# Altium footprint library Tranzistor.PcbLib: 240 footprints (part 4 of 15)
Each footprint in its own frame and in the unit in brackets; x right, y up, seen from the top. Pads: shape width x height; smd on the part's side, far side on the other; paste and mask are expansions set on the pad; w line width, h text height; cw(c..) or ccw(c..) is an arc to the next point about the centre after c.
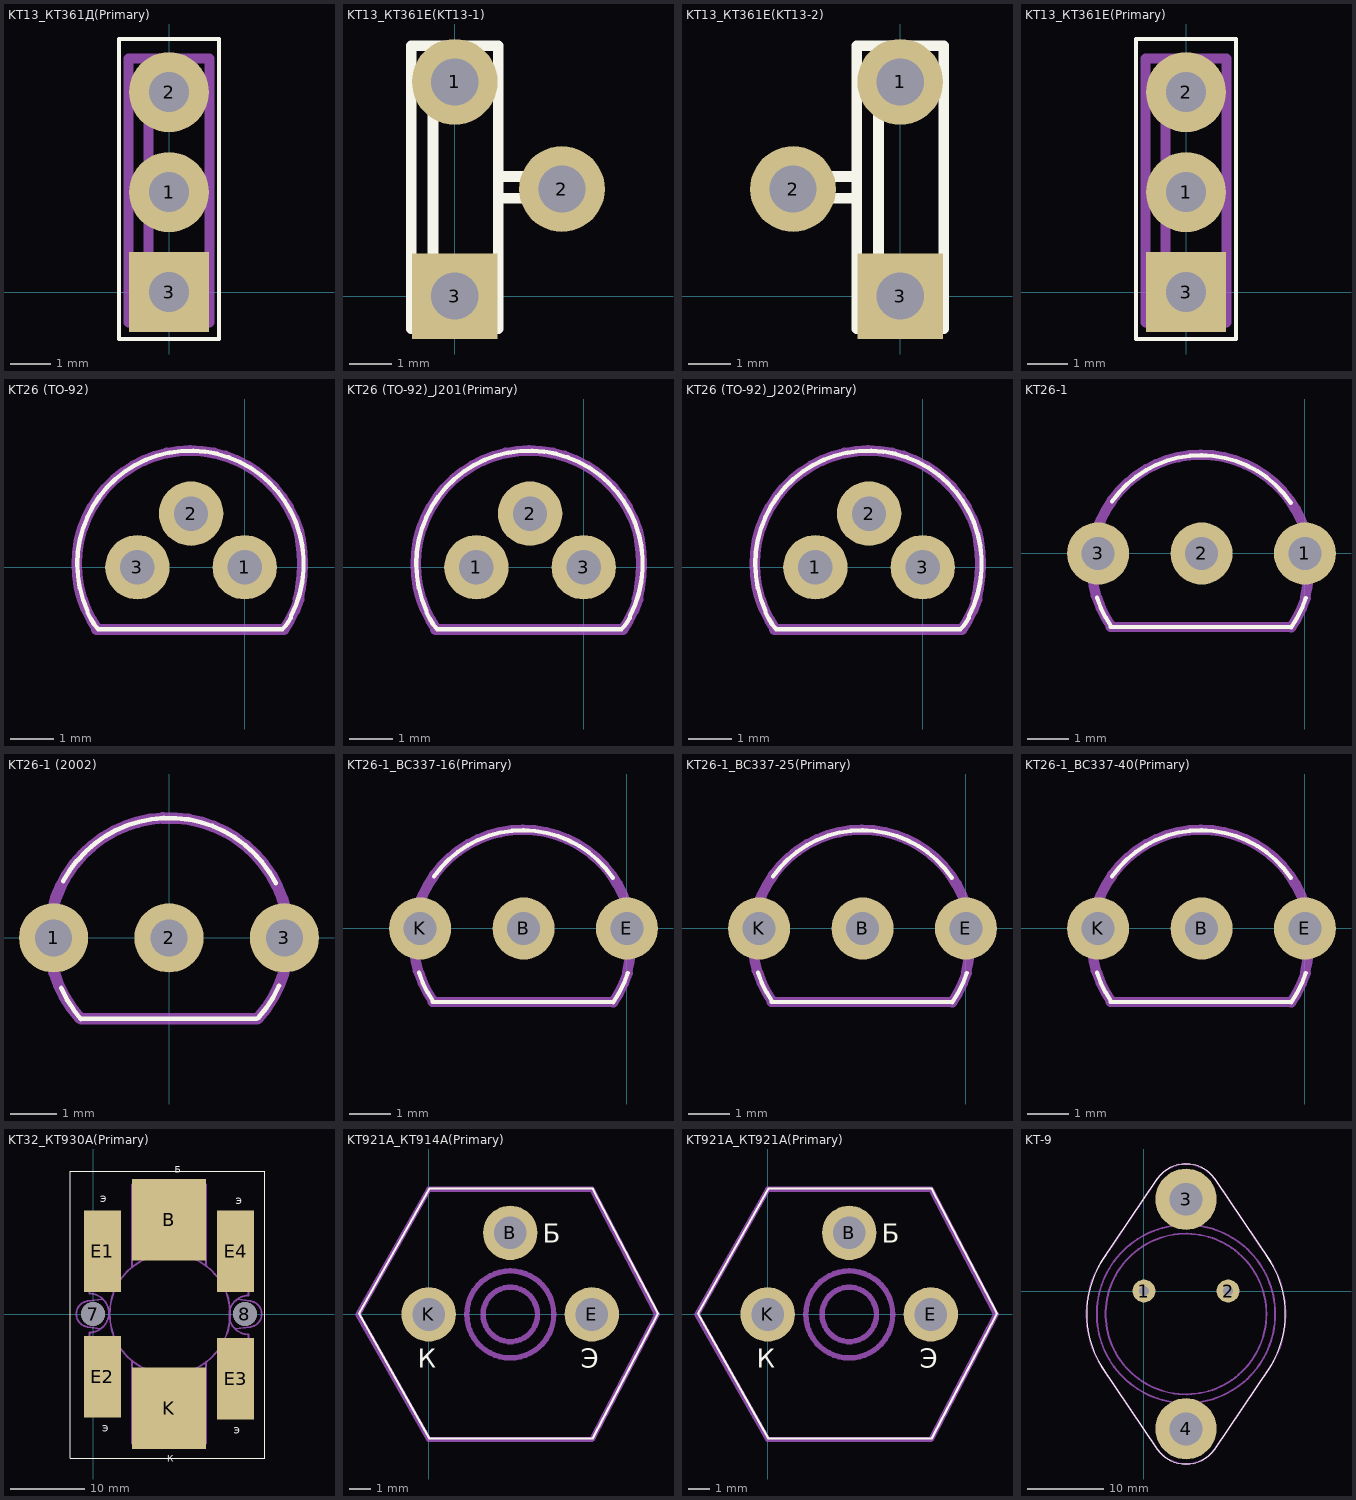
[diagram p3: the footprints below, top view; thin cyan lines are the x and y axes]

## KT13_КТ361Д(Primary) [mm]
pads (3):
  round 2 hole 1: 1(0,2.5) 2(0,5)
  rect 2x2 hole 1: 3(0,0)
Top Overlay:
  lines w0.1: -1.25,-1.17 1.25,-1.17 1.25,6.33 -1.25,6.33 -1.25,-1.17
Mechanical 1:
  lines w0.25: -0.508,-0.762 -0.508,5.842 ; -1.016,-0.762 1.016,-0.762 1.016,5.842 -1.016,5.842 -1.016,-0.762
  text "Б" at -2.25,4.58 h1
  text "К" at -2.25,2.08 h1
  text "Э" at -2.25,-0.67 h1

## KT13_КТ361Е(KT13-1) [mm]
pads (3):
  round 2 hole 1.1: 1(0,5) 2(2.5,2.5)
  rect 2x2 hole 1.1: 3(0,0)
Top Overlay:
  lines w0.25: -0.508,-0.762 -0.508,5.842 ; 1.016,2.286 2.667,2.286 2.667,2.794 1.016,2.794 ; -1.016,-0.762 1.016,-0.762 1.016,5.842 -1.016,5.842 -1.016,-0.762

## KT13_КТ361Е(KT13-2) [mm]
pads (3):
  round 2 hole 1.1: 1(0,5) 2(-2.5,2.5)
  rect 2x2 hole 1.1: 3(0,0)
Top Overlay:
  lines w0.25: -1.016,2.286 -2.667,2.286 -2.667,2.794 -1.016,2.794 ; -0.508,-0.762 -0.508,5.842 ; -1.016,-0.762 1.016,-0.762 1.016,5.842 -1.016,5.842 -1.016,-0.762

## KT13_КТ361Е(Primary) [mm]
pads (3):
  round 2 hole 1: 1(0,2.5) 2(0,5)
  rect 2x2 hole 1: 3(0,0)
Top Overlay:
  lines w0.1: -1.25,-1.17 1.25,-1.17 1.25,6.33 -1.25,6.33 -1.25,-1.17
Mechanical 1:
  lines w0.25: -0.508,-0.762 -0.508,5.842 ; -1.016,-0.762 1.016,-0.762 1.016,5.842 -1.016,5.842 -1.016,-0.762
  text "Б" at -2.25,4.58 h1
  text "К" at -2.25,2.08 h1
  text "Э" at -2.25,-0.67 h1

## KT26 (TO-92) [mm]
pads (3):
  round 1.5 hole 0.8: 1(0,0) 2(-1.25,1.25) 3(-2.5,0)
Top Overlay:
  lines w0.1: -3.664,-1.015 cw(c-1.264,0.079) 1.078,-1.135 ; -3.661,-1.052 ccw(c-2.306,-0.474) -3.416,-1.443 ; -3.401,-1.441 -0.068,-1.442 ; -0.066,-1.441 0.874,-1.441 ; 0.878,-1.442 ccw(c0.253,-0.781) 1.069,-1.183
Mechanical 1:
  lines w0.25: -3.811,-0.683 cw(c-1.092,0.076) -3.811,0.835 ; -3.785,-0.736 ccw(c-1.27,0.076) -3.437,-1.436 ; -3.785,0.888 cw(c-1.27,0.076) 1.243,0.893 ; -3.454,-1.448 0.914,-1.448 ; 0.912,-1.452 ccw(c-1.27,0.076) 1.263,-0.747 ; 1.244,-0.739 ccw(c-1.956,0.076) 1.244,0.892

## KT26 (TO-92)_J201(Primary) [mm]
pads (3):
  round 1.5 hole 0.8: 1(-2.5,0) 2(-1.25,1.25) 3(0,0)
Top Overlay:
  lines w0.1: -3.664,-1.015 cw(c-1.264,0.079) 1.078,-1.135 ; -3.661,-1.052 ccw(c-2.306,-0.474) -3.416,-1.443 ; -3.401,-1.441 -0.068,-1.442 ; -0.066,-1.441 0.874,-1.441 ; 0.878,-1.442 ccw(c0.253,-0.781) 1.069,-1.183
Mechanical 1:
  lines w0.25: -3.811,-0.683 cw(c-1.092,0.076) -3.811,0.835 ; -3.785,-0.736 ccw(c-1.27,0.076) -3.437,-1.436 ; -3.785,0.888 cw(c-1.27,0.076) 1.243,0.893 ; -3.454,-1.448 0.914,-1.448 ; 0.912,-1.452 ccw(c-1.27,0.076) 1.263,-0.747 ; 1.244,-0.739 ccw(c-1.956,0.076) 1.244,0.892

## KT26 (TO-92)_J202(Primary) [mm]
pads (3):
  round 1.5 hole 0.8: 1(-2.5,0) 2(-1.25,1.25) 3(0,0)
Top Overlay:
  lines w0.1: -3.664,-1.015 cw(c-1.264,0.079) 1.078,-1.135 ; -3.661,-1.052 ccw(c-2.306,-0.474) -3.416,-1.443 ; -3.401,-1.441 -0.068,-1.442 ; -0.066,-1.441 0.874,-1.441 ; 0.878,-1.442 ccw(c0.253,-0.781) 1.069,-1.183
Mechanical 1:
  lines w0.25: -3.811,-0.683 cw(c-1.092,0.076) -3.811,0.835 ; -3.785,-0.736 ccw(c-1.27,0.076) -3.437,-1.436 ; -3.785,0.888 cw(c-1.27,0.076) 1.243,0.893 ; -3.454,-1.448 0.914,-1.448 ; 0.912,-1.452 ccw(c-1.27,0.076) 1.263,-0.747 ; 1.244,-0.739 ccw(c-1.956,0.076) 1.244,0.892

## KT26-1 [mm]
pads (3):
  round 1.5 hole 0.8: 1(0,0) 2(-2.5,0) 3(-5,0)
Top Overlay:
  lines w0.1: -5.029,-1.066 ccw(c-2.515,-0.254) -4.682,-1.766 ; -4.699,-1.778 -0.33,-1.778 ; -4.668,1.254 cw(c-2.515,-0.254) -0.343,1.228 ; -0.333,-1.782 ccw(c-2.515,-0.254) 0.019,-1.077
Mechanical 1:
  lines w0.25: -5.055,-1.013 cw(c-2.337,-0.254) -5.055,0.505 ; -5.029,-1.066 ccw(c-2.515,-0.254) -4.682,-1.766 ; -5.029,0.558 cw(c-2.515,-0.254) -0.001,0.563 ; -4.699,-1.778 -0.33,-1.778 ; -0.333,-1.782 ccw(c-2.515,-0.254) 0.019,-1.077 ; -0.001,-1.07 ccw(c-3.2,-0.254) -0.001,0.562

## KT26-1 (2002) [mm]
pads (3):
  round 1.5 hole 0.8: 1(-2.5,0) 2(0,0) 3(2.5,0)
Top Overlay:
  lines w0.1: -2.334,-1.087 ccw(c0.05,-0.05) -1.909,-1.759 ; -2.294,1.225 cw(c0,0) 2.315,1.184 ; -1.9,-1.75 1.9,-1.75 ; 1.941,-1.73 ccw(c0,0) 2.384,-1.037
Mechanical 1:
  lines w0.25: -1.941,-1.73 cw(c0,0) 1.932,-1.74 ; -1.9,-1.75 0,-1.75 1.9,-1.75

## KT26-1_BC337-16(Primary) [mm]
pads (3):
  round 1.5 hole 0.8: B(-2.5,0) E(0,0) K(-5,0)
Top Overlay:
  lines w0.1: -5.029,-1.066 ccw(c-2.515,-0.254) -4.682,-1.766 ; -4.699,-1.778 -0.33,-1.778 ; -4.668,1.254 cw(c-2.515,-0.254) -0.343,1.228 ; -0.333,-1.782 ccw(c-2.515,-0.254) 0.019,-1.077
Mechanical 1:
  lines w0.25: -5.055,-1.013 cw(c-2.337,-0.254) -5.055,0.505 ; -5.029,-1.066 ccw(c-2.515,-0.254) -4.682,-1.766 ; -5.029,0.558 cw(c-2.515,-0.254) -0.001,0.563 ; -4.699,-1.778 -0.33,-1.778 ; -0.333,-1.782 ccw(c-2.515,-0.254) 0.019,-1.077 ; -0.001,-1.07 ccw(c-3.2,-0.254) -0.001,0.562

## KT26-1_BC337-25(Primary) [mm]
pads (3):
  round 1.5 hole 0.8: B(-2.5,0) E(0,0) K(-5,0)
Top Overlay:
  lines w0.1: -5.029,-1.066 ccw(c-2.515,-0.254) -4.682,-1.766 ; -4.699,-1.778 -0.33,-1.778 ; -4.668,1.254 cw(c-2.515,-0.254) -0.343,1.228 ; -0.333,-1.782 ccw(c-2.515,-0.254) 0.019,-1.077
Mechanical 1:
  lines w0.25: -5.055,-1.013 cw(c-2.337,-0.254) -5.055,0.505 ; -5.029,-1.066 ccw(c-2.515,-0.254) -4.682,-1.766 ; -5.029,0.558 cw(c-2.515,-0.254) -0.001,0.563 ; -4.699,-1.778 -0.33,-1.778 ; -0.333,-1.782 ccw(c-2.515,-0.254) 0.019,-1.077 ; -0.001,-1.07 ccw(c-3.2,-0.254) -0.001,0.562

## KT26-1_BC337-40(Primary) [mm]
pads (3):
  round 1.5 hole 0.8: B(-2.5,0) E(0,0) K(-5,0)
Top Overlay:
  lines w0.1: -5.029,-1.066 ccw(c-2.515,-0.254) -4.682,-1.766 ; -4.699,-1.778 -0.33,-1.778 ; -4.668,1.254 cw(c-2.515,-0.254) -0.343,1.228 ; -0.333,-1.782 ccw(c-2.515,-0.254) 0.019,-1.077
Mechanical 1:
  lines w0.25: -5.055,-1.013 cw(c-2.337,-0.254) -5.055,0.505 ; -5.029,-1.066 ccw(c-2.515,-0.254) -4.682,-1.766 ; -5.029,0.558 cw(c-2.515,-0.254) -0.001,0.563 ; -4.699,-1.778 -0.33,-1.778 ; -0.333,-1.782 ccw(c-2.515,-0.254) 0.019,-1.077 ; -0.001,-1.07 ccw(c-3.2,-0.254) -0.001,0.562

## KT32_КТ930А(Primary) [mm]
pads (8):
  round 3.2 hole 3.2 unplated: 7(0,0) 8(20.5,0)
  rect 10x11 smd: B(10.25,12.75) K(10.25,-12.75)
  rect 5x11 smd: E1(1.25,8.5) E2(1.25,-8.5) E3(19.25,-8.75) E4(19.25,8.5)
Top Overlay:
  lines w0.1: -3.09,-19.5 -3.09,19.25 -1.84,19.25 23.16,19.25 23.16,-19.5 -1.84,-19.5 -3.09,-19.5
  text "К" at 10,-20.25 h1.5
  text "Э" at 19.25,14.5 h1.5
  text "Э" at 19,-16.5 h1.5
  text "Э" at 1,14.75 h1.5
  text "Э" at 1.25,-16.25 h1.5
  text "Б" at 11,18.75 h1.5
Mechanical 1:
  lines w0.25: 1,-2 -0.75,-1.75 ; 1.25,2 -0.75,1.75 ; 3.25,-4 3.25,-12.5 -0.5,-12.5 -0.5,-2.5 ccw(c-0.5,0.125) -0.5,2.75 -0.5,12.75 3.25,12.75 3.25,4 ; 5.25,-6.25 5.25,-17.5 15.25,-17.5 15.25,-6.5 ; 5.25,6.25 5.25,17.5 15.25,17.5 15.25,6.5 ; 17.25,-4.25 17.25,-12.75 21,-12.75 21,-2.75 cw(c21,-0.125) 21,2.5 21,12.5 17.25,12.5 17.25,4.5 ; 19.25,-2 21.25,-1.75 ccw(c21,0) 21.25,1.75 19.5,2 ; -0.75,-1.75 cw(c-0.5,0) -0.75,1.75 ; -0.75,-1.75 cw(c-0.5,0) -0.75,1.75 ; 2.25,0 cw(c10.375,0) 18.5,0 cw(c10.375,0) 2.25,0

## KT921A_КТ914А(Primary) [mm]
pads (3):
  round 2.5 hole 1.5: B(3.75,3.75) E(7.5,0) K(0,0)
Top Overlay:
  lines w0.1: -3.21,0.04 0.04,5.79 7.54,5.79 10.54,0.04 7.54,-5.71 0.04,-5.71 -3.21,0.04
  text "Б" at 5.25,3 h1.5
  text "Э" at 7,-2.75 h1.5
  text "К" at -0.5,-2.75 h1.5
Mechanical 1:
  lines w0.25: -3.25,0 0,-5.75 7.5,-5.75 10.5,0 7.5,5.75 0,5.75 -3.25,0 ; 1.75,0 cw(c3.75,0) 5.75,0 cw(c3.75,0) 1.75,0 ; 2.5,0 cw(c3.75,0) 5,0 cw(c3.75,0) 2.5,0

## KT921A_КТ921А(Primary) [mm]
pads (3):
  round 2.5 hole 1.5: B(3.75,3.75) E(7.5,0) K(0,0)
Top Overlay:
  lines w0.1: -3.21,0.04 0.04,5.79 7.54,5.79 10.54,0.04 7.54,-5.71 0.04,-5.71 -3.21,0.04
  text "Б" at 5.25,3 h1.5
  text "Э" at 7,-2.75 h1.5
  text "К" at -0.5,-2.75 h1.5
Mechanical 1:
  lines w0.25: -3.25,0 0,-5.75 7.5,-5.75 10.5,0 7.5,5.75 0,5.75 -3.25,0 ; 1.75,0 cw(c3.75,0) 5.75,0 cw(c3.75,0) 1.75,0 ; 2.5,0 cw(c3.75,0) 5,0 cw(c3.75,0) 2.5,0

## KT-9 [mm]
pads (4):
  round 3 hole 1.3: 1(0,0) 2(11,0)
  round 8 hole 4.3: 3(5.5,12) 4(5.5,-18)
Top Overlay:
  lines w0.1: -5.547,-9.854 1.762,-20.681 ; -5.547,3.855 1.762,14.683 ; -4.991,-10.677 cw(c5.5,-2.999) -4.978,4.697 ; 1.611,-20.457 ccw(c5.5,-17.999) 9.383,-20.464 ; 1.616,14.466 cw(c5.5,12.001) 9.388,14.459 ; 9.237,-20.681 16.546,-9.854 ; 9.237,14.683 16.546,3.855 ; 15.977,-10.695 ccw(c5.5,-2.999) 15.99,4.679
Mechanical 1:
  circle w0.25: c5.5,-2.999 r11.654
  circle w0.25: c5.5,-2.999 r10.5
  circle w0.25: c5.5,12.001 r2.05
  circle w0.25: c5.5,-17.999 r2.05
  lines w0.25: -5.547,-9.854 1.762,-20.681 ; -5.547,3.855 1.762,14.683 ; -4.991,-10.677 cw(c5.5,-2.999) -4.978,4.697 ; 1.611,-20.457 ccw(c5.5,-17.999) 9.383,-20.464 ; 1.616,14.466 cw(c5.5,12.001) 9.388,14.459 ; 9.237,-20.681 16.546,-9.854 ; 9.237,14.683 16.546,3.855 ; 15.977,-10.695 ccw(c5.5,-2.999) 15.99,4.679
  text "К" at 10,8.75 h1.5
  text "Б" at 10.5,1.75 h1.5
  text "Э" at -0.5,1.75 h1.5